# Altium schematic symbol library CAP,Cer,1nF,50VDC,X7R,0402.Schlib: 1 symbol
Pins are listed as number, name and electrical type; pins without a type are passive.

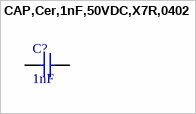
[diagram p0: symbol CAP,Cer,1nF,50VDC,X7R,0402]

## CAP,Cer,1nF,50VDC,X7R,0402
designator C?, comment 1nF
1000pF ±10% 50V Ceramic Capacitor X7R 0402 (1005 Metric)
pins: 1, 2